# EAGLE library part CH340G (library Interface ICs.basic)
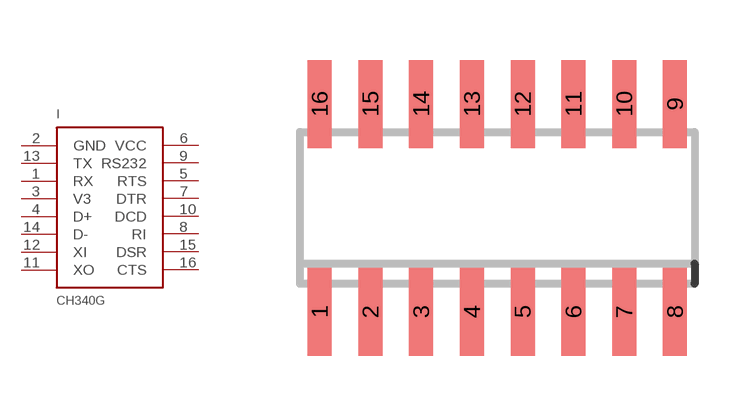
[diagram p0: symbol with the pads of IC_SOIC-16; footprint IC_SOIC-16]

Designator prefix I

## CH340GFEK (JLCPCB_IS_BASIC: yes; LCSC_PART: C14267; VALUE: CH340G)  [IC_SOIC-16]
1  RX
2  GND
3  V3
4  D+
5  RTS
6  VCC
7  DTR
8  RI
9  RS232
10  DCD
11  XO
12  XI
13  TX
14  D-
15  DSR
16  CTS

## Footprint IC_SOIC-16 (pad centres in mm)
SMALL OUTLINE INTEGRATED CIRCUIT
smd 0.6 x 2.2: 1 -4.445,-2.6; 2 -3.175,-2.6; 3 -1.905,-2.6; 4 -0.635,-2.6; 5 0.635,-2.6; 6 1.905,-2.6; 7 3.175,-2.6; 8 4.445,-2.6; 9 4.445,2.6; 10 3.175,2.6; 11 1.905,2.6; 12 0.635,2.6; 13 -0.635,2.6; 14 -1.905,2.6; 15 -3.175,2.6; 16 -4.445,2.6